# Altium footprint library PCB2.PcbLib: 56 footprints (part 3 of 4)
Each footprint in its own frame and in the unit in brackets; x right, y up, seen from the top. Pads: shape width x height; smd on the part's side, far side on the other; paste and mask are expansions set on the pad; w line width, h text height; cw(c..) or ccw(c..) is an arc to the next point about the centre after c.
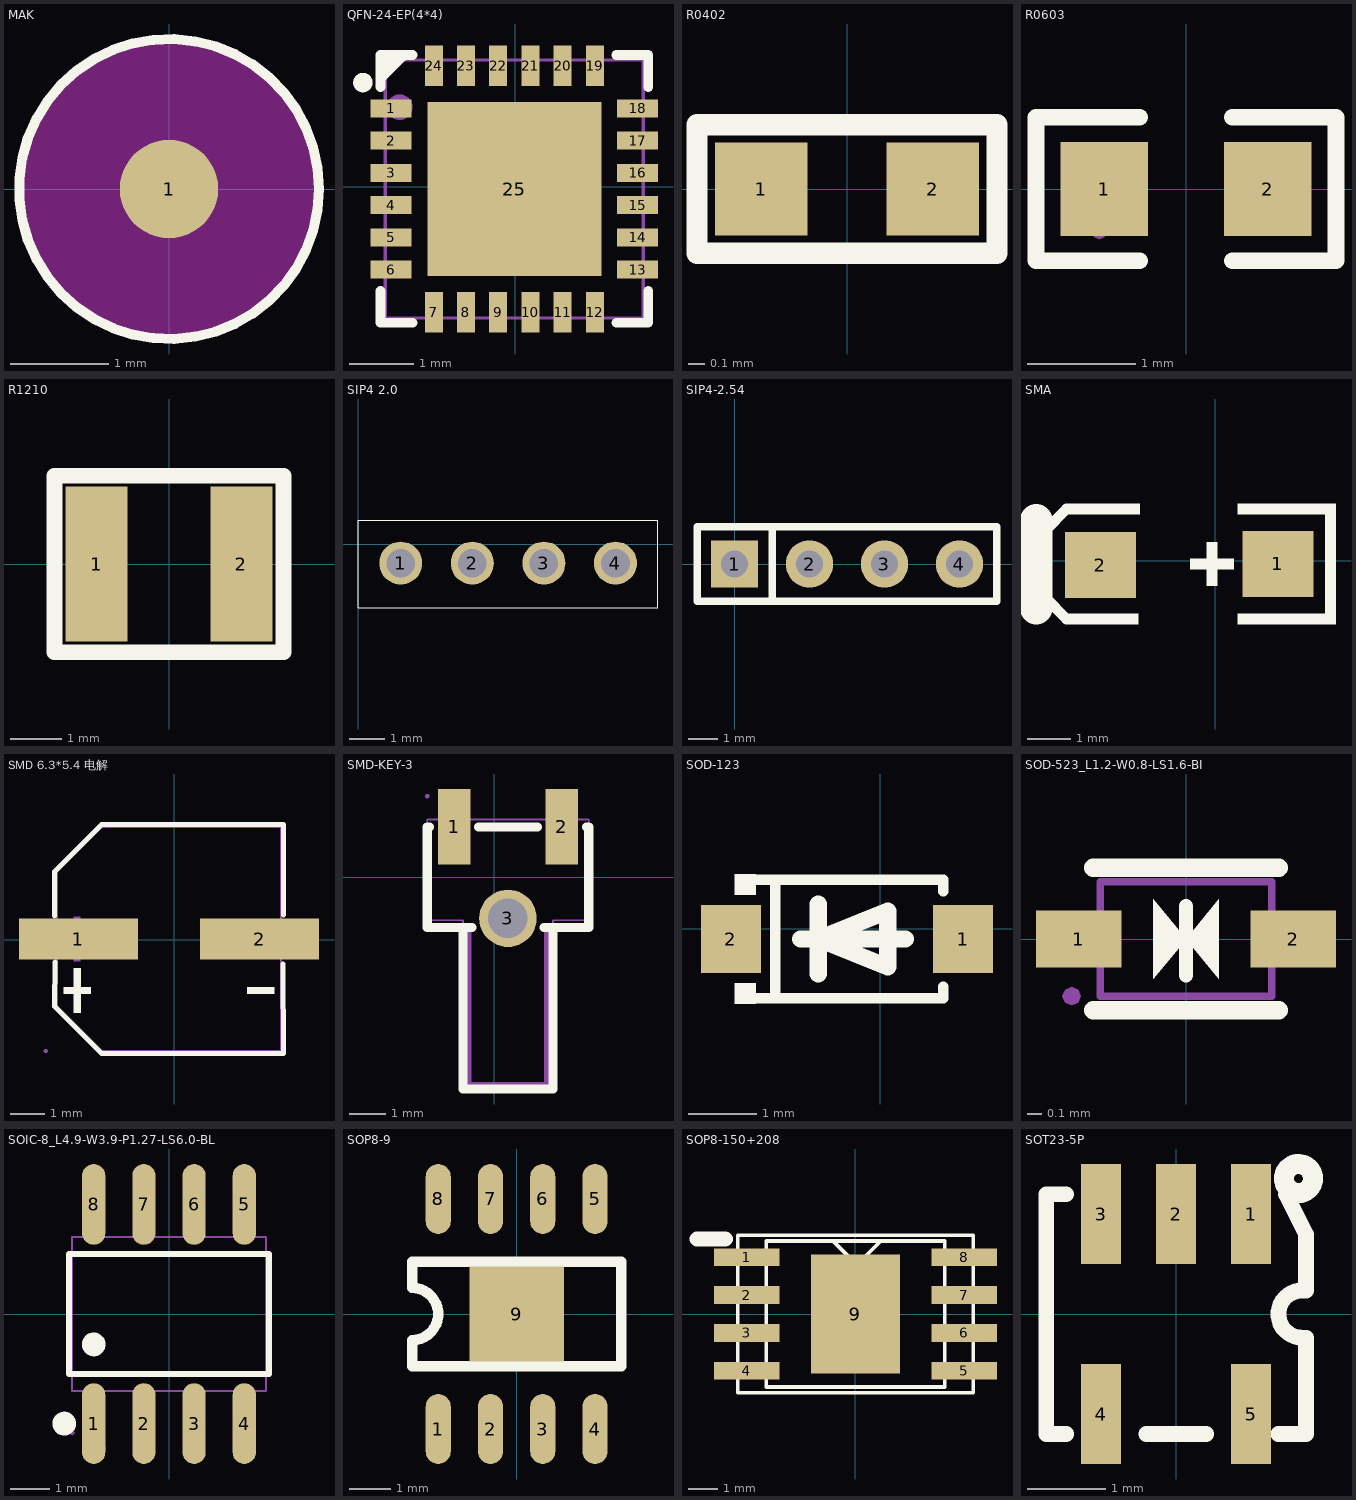
[diagram p2: the footprints below, top view; thin cyan lines are the x and y axes]

## MAK [mm]
height 6.86
pads (1):
  round 1 smd: 1(0,0)
Top Layer keep-out:
  region: 1.524,0 1.524,0.15 1.465,0.445 1.351,0.722 1.184,0.971 0.971,1.184 0.722,1.351 0.445,1.465 0.15,1.524 0,1.524 -0.15,1.524 -0.445,1.465 -0.722,1.351 -0.971,1.184 -1.184,0.971 -1.351,0.722 -1.465,0.445 -1.524,0.15 -1.524,0 -1.524,-0.15 -1.465,-0.445 -1.351,-0.722 -1.184,-0.971 -0.971,-1.184 -0.722,-1.351 -0.445,-1.465 -0.15,-1.524 0,-1.524 0.15,-1.524 0.445,-1.465 0.722,-1.351 0.971,-1.184 1.184,-0.971 1.351,-0.722 1.465,-0.445 1.524,-0.15
Top Overlay:
  circle w0.102: c0,0 r1.524

## QFN-24-EP(4*4) [mil]
height 270.08
pads (25):
  rect 24.9x11 smd paste-3937 mask+2: 1(-75.8,47.9) 2(-75.8,28.3) 3(-75.8,8.6) 4(-75.8,-11.1) 5(-75.8,-30.8) 6(-75.8,-50.5) 13(74.7,-50.5) 14(74.7,-30.8) 15(74.7,-11.1) 16(74.7,8.6) 17(74.7,28.3) 18(74.7,47.9)
  rect 11x24.9 smd paste-3937 mask+2: 7(-49.7,-76.5) 8(-30.1,-76.5) 9(-10.4,-76.5) 10(9.3,-76.5) 11(29,-76.5) 12(48.7,-76.5) 19(48.7,74) 20(29,74) 21(9.3,74) 22(-10.4,74) 23(-30.1,74) 24(-49.7,74)
  rect 106.3x106.3 smd paste-3937 mask+2: 25(-0.5,-1.3)
Top Overlay:
  circle w5.9: c-93,63.7 r3
  region: -62.8,80.5 -82.3,80.5 -82.3,65.7
  lines w6: -82.3,-63.5 -82.3,-83 -62.8,-83 ; -82.3,61 -82.3,80.5 -62.8,80.5 -68,80.5 -82.3,66.2 ; 61.7,-83 81.2,-83 81.2,-63.5 ; 61.7,80.5 81.2,80.5 81.2,61
Top Paste:
  region: -55.2,86.4 -44.2,86.4 -44.2,61.5 -55.2,61.5
  region: -35.6,86.4 -24.5,86.4 -24.5,61.5 -35.6,61.5
  region: -15.9,86.4 -4.9,86.4 -4.9,61.5 -15.9,61.5
  region: 3.8,86.4 14.8,86.4 14.8,61.5 3.8,61.5
  region: 23.5,86.4 34.5,86.4 34.5,61.5 23.5,61.5
  region: 43.2,86.4 54.2,86.4 54.2,61.5 43.2,61.5
  region: 62.3,53.4 87.2,53.4 87.2,42.4 62.3,42.4
  region: 62.3,33.8 87.2,33.8 87.2,22.7 62.3,22.7
  region: 62.3,14.1 87.2,14.1 87.2,3.1 62.3,3.1
  region: 62.3,-5.6 87.2,-5.6 87.2,-16.6 62.3,-16.6
  region: 62.3,-25.3 87.2,-25.3 87.2,-36.3 62.3,-36.3
  region: 62.3,-45 87.2,-45 87.2,-56 62.3,-56
  region: 43.2,-64.1 54.2,-64.1 54.2,-89 43.2,-89
  region: 23.5,-64.1 34.5,-64.1 34.5,-89 23.5,-89
  region: 3.8,-64.1 14.8,-64.1 14.8,-89 3.8,-89
  region: -15.9,-64.1 -4.9,-64.1 -4.9,-89 -15.9,-89
  region: -35.6,-64.1 -24.5,-64.1 -24.5,-89 -35.6,-89
  region: -55.2,-64.1 -44.2,-64.1 -44.2,-89 -55.2,-89
  region: -88.2,-45 -63.3,-45 -63.3,-56 -88.2,-56
  region: -88.2,-25.3 -63.3,-25.3 -63.3,-36.3 -88.2,-36.3
  region: -88.2,-5.6 -63.3,-5.6 -63.3,-16.6 -88.2,-16.6
  region: -88.2,14.1 -63.3,14.1 -63.3,3.1 -88.2,3.1
  region: -88.2,33.8 -63.3,33.8 -63.3,22.7 -88.2,22.7
  region: -88.2,53.4 -63.3,53.4 -63.3,42.4 -88.2,42.4
  region: -43,41.2 42,41.2 42,-43.8 -43,-43.8
Mechanical 2:
  circle w7.9: c-70.5,48.7 r3.9
Mechanical 6:
  lines w2: -79.3,-80 -79.3,77.5 78.2,77.5 78.2,-80 -79.3,-80
Mechanical 8:
  region: -76.9,77.5 -76.9,76.51 -78.31,75.1 -80.29,75.1 -81.7,76.51 -81.7,77.5 -81.7,78.49 -80.29,79.9 -78.31,79.9 -76.9,78.49
Mechanical 9:
  region: -39.9,47.9 48.7,47.9 48.7,-50.5 -49.7,-50.5 -49.7,38.1
  region: -54.5,62.5 -45,62.5 -45,77.5 -54.5,77.5
  region: -34.8,62.5 -25.3,62.5 -25.3,77.5 -34.8,77.5
  region: -15.1,62.5 -5.6,62.5 -5.6,77.5 -15.1,77.5
  region: 4.6,62.5 14,62.5 14,77.5 4.6,77.5
  region: 24.3,62.5 33.7,62.5 33.7,77.5 24.3,77.5
  region: 44,62.5 53.4,62.5 53.4,77.5 44,77.5
  region: 78.2,52.7 63.3,52.7 63.3,43.2 78.2,43.2
  region: 78.2,33 63.3,33 63.3,23.5 78.2,23.5
  region: 78.2,13.3 63.3,13.3 63.3,3.8 78.2,3.8
  region: 78.2,-6.4 63.3,-6.4 63.3,-15.8 78.2,-15.8
  region: 78.2,-26.1 63.3,-26.1 63.3,-35.5 78.2,-35.5
  region: 78.2,-45.8 63.3,-45.8 63.3,-55.2 78.2,-55.2
  region: 44,-65.1 53.4,-65.1 53.4,-80 44,-80
  region: 24.3,-65.1 33.7,-65.1 33.7,-80 24.3,-80
  region: 4.6,-65.1 14,-65.1 14,-80 4.6,-80
  region: -15.1,-65.1 -5.6,-65.1 -5.6,-80 -15.1,-80
  region: -34.8,-65.1 -25.3,-65.1 -25.3,-80 -34.8,-80
  region: -54.5,-65.1 -45,-65.1 -45,-80 -54.5,-80
  region: -79.3,-45.8 -64.3,-45.8 -64.3,-55.2 -79.3,-55.2
  region: -79.3,-26.1 -64.3,-26.1 -64.3,-35.5 -79.3,-35.5
  region: -79.3,-6.4 -64.3,-6.4 -64.3,-15.8 -79.3,-15.8
  region: -79.3,13.3 -64.3,13.3 -64.3,3.8 -79.3,3.8
  region: -79.3,33 -64.3,33 -64.3,23.5 -79.3,23.5
  region: -79.3,52.7 -64.3,52.7 -64.3,43.2 -79.3,43.2

## R0402 [mm]
height 6.86
pads (2):
  rect 0.55x0.55 smd mask+0.025: 1(-0.508,0) 2(0.508,0)
Top Overlay:
  lines w0.127: -0.889,-0.381 -0.889,0.381 0.889,0.381 0.889,-0.381 -0.889,-0.381

## R0603 [mm]
height 6.86
pads (2):
  rect 0.806x0.864 smd: 1(-0.753,0) 2(0.753,0)
Top Overlay:
  lines w0.152: -0.426,-0.661 -1.385,-0.661 -1.385,0.661 -0.426,0.661 ; 0.426,-0.661 1.385,-0.661 1.385,0.661 0.426,0.661
Top Paste:
  region: 1.195,0.45 0.395,0.45 0.345,0.4 0.345,0.172 0.715,0.172 0.715,-0.158 0.345,-0.158 0.345,-0.4 0.395,-0.45 1.195,-0.45 1.245,-0.4 1.245,0.4
  region: -0.355,0.4 -0.355,0.172 -0.735,0.172 -0.735,-0.158 -0.355,-0.158 -0.355,-0.4 -0.405,-0.45 -1.195,-0.45 -1.245,-0.4 -1.245,0.4 -1.195,0.45 -0.405,0.45
Mechanical 15:
  region: -0.8,-0.4 -0.8,0.4 -0.5,0.4 -0.5,-0.4
  region: 0.8,-0.4 0.8,0.4 0.5,0.4 0.5,-0.4
  region: -0.735,-0.4 -0.754,-0.446 -0.8,-0.465 -0.846,-0.446 -0.865,-0.4 -0.846,-0.354 -0.8,-0.335 -0.754,-0.354
  lines w0.051: -0.8,-0.4 -0.8,0.4 ; 0.8,-0.4 0.8,0.4

## R1210 [mil]
height 270.08
pads (2):
  rect 47x118 smd: 1(-55,0) 2(55,0)
Top Overlay:
  lines w12: -87,-67 -87,67 87,67 87,-67 -87,-67

## SIP4 2.0 [mm]
height 6.86
pads (4):
  round 1.2 hole 0.8: 1(1.194,-0.533) 2(3.194,-0.533) 3(5.194,-0.533) 4(7.194,-0.533)
Top Overlay:
  lines w0.025: 0,-1.778 0,0.66 8.382,0.66 8.382,-1.778 0,-1.778

## SIP4-2.54 [mm]
height 6.86
pads (4):
  rect 1.6x1.6 hole 0.9: 1(0,0)
  round 1.6 hole 0.9: 2(2.54,0) 3(5.08,0) 4(7.62,0)
Top Overlay:
  lines w0.254: 1.27,-1.27 1.27,1.27 ; -1.27,-1.27 -1.27,1.27 8.89,1.27 8.89,-1.27 -1.27,-1.27

## SMA [mm]
height 6.86
pads (2):
  rect 1.65x1.53 smd: 1(1.449,-0.076) 2(-2.665,-0.102)
Top Overlay:
  region: 0.052,0.432 -0.202,0.432 -0.202,-0.584 0.052,-0.584
  region: 0.433,0.051 -0.583,0.051 -0.583,-0.203 0.433,-0.203
  region: 2.795,-1.219 0.509,-1.219 0.509,-1.473 2.795,-1.473
  region: 2.796,1.32 2.542,1.32 2.542,-1.474 2.796,-1.474
  region: 2.796,1.32 0.51,1.32 0.51,1.066 2.796,1.066
  region: -1.776,-1.219 -3.453,-1.219 -3.453,-1.473 -1.776,-1.473
  region: -1.751,1.321 -3.453,1.321 -3.453,1.067 -1.751,1.067
  lines w0.254: -3.456,-1.346 -3.926,-0.876 -3.926,0.724 -3.456,1.194
  lines w0.762: -4.158,-1.096 -4.158,0.936
3D body "sma.stp": height 2.39, standoff 0.1, extent -3.058,-1.394 1.842,1.181

## SMD 6.3*5.4 电解 [mm]
height 6.86
pads (2):
  rect 3.5x1.2 smd: 1(-2.822,0.023) 2(2.518,0.023)
Top Overlay:
  region: 2.95,-1.396 2.95,-1.594 2.158,-1.594 2.158,-1.396
  region: -3.254,-1.396 -3.254,-1.594 -2.462,-1.594 -2.462,-1.396
  region: -2.957,-0.835 -2.957,-2.155 -2.759,-2.155 -2.759,-0.835
  lines w0.152: -3.528,0.709 -3.528,2.003 -2.132,3.399 3.224,3.399 3.218,0.731 ; -3.514,-0.663 -3.528,-1.958 -2.133,-3.353 3.224,-3.353 3.204,-0.716
Mechanical 6:
  region: 2.95,0.122 2.95,-0.076 2.158,-0.076 2.158,0.122
  region: -3.254,0.122 -3.254,-0.076 -2.462,-0.076 -2.462,0.122
  region: -2.962,0.683 -2.962,-0.637 -2.764,-0.637 -2.764,0.683
Mechanical 15:
  region: -3.726,-3.277 -3.727,-3.253 -3.761,-3.219 -3.81,-3.219 -3.845,-3.253 -3.846,-3.277 -3.845,-3.301 -3.81,-3.335 -3.761,-3.335 -3.727,-3.301
  region: 0.915,0.348 3.515,0.348 3.515,-0.302 0.915,-0.302
  region: -3.786,0.348 -1.186,0.348 -1.186,-0.302 -3.786,-0.302
  lines w0.051: -3.452,-1.957 -2.132,-3.277 3.148,-3.277 3.148,3.323 -2.132,3.323 -3.452,2.003 -3.452,-1.957

## SMD-KEY-3 [mil]
height 270.08
pads (3):
  rect 35.4x82.7 smd paste-3937 mask+2: 1(-44.1,55.5) 2(74,55.5)
  round 63 hole 43.3 paste+0 mask+2: 3(14.9,-44.9)
Top Overlay:
  lines w10: -70.9,55.3 -73.6,55.3 -73.6,-54.9 -24.4,-54.9 ; -34.3,-54.9 -34.3,-145.4 -34.3,-232 64.2,-232 64.2,-145.4 64.2,-54.9 ; -17.3,55.3 47.2,55.3 ; 54.3,-54.9 103.5,-54.9 103.5,55.3 100.8,55.3
Top Paste:
  drawing of 3 lines, arcs and shapes, not listed
Mechanical 2:
  region: -30.1,-59.7 -30.1,-229.7 -25.1,-229.7 -25.1,-59.7
  region: 59.9,-59.7 59.9,-229.7 54.9,-229.7 54.9,-59.7
  region: -25.1,-229.7 54.9,-229.7 54.9,-224.7 -25.1,-224.7
Mechanical 6:
  lines w2: -73.6,-47 -73.6,63.3 103.5,63.3 103.5,-47 64.2,-47 64.2,-232 -34.3,-232 -34.3,-47 -73.6,-47
Mechanical 8:
  region: -71.2,88.9 -71.2,87.91 -72.61,86.5 -74.59,86.5 -76,87.91 -76,88.9 -76,89.89 -74.59,91.3 -72.61,91.3 -71.2,89.89
Mechanical 9:
  region: 61.2,88.9 86.8,88.9 86.8,49.5 61.2,49.5
  region: -56.9,88.9 -31.3,88.9 -31.3,49.5 -56.9,49.5
  region: 1.2,-39 28.7,-39 28.7,-50.8 1.2,-50.8

## SOD-123 [mm]
height 6.86
pads (2):
  rect 0.88x0.99 smd: 1(1.209,-0.15) 2(-2.176,-0.15)
Top Overlay:
  region: -1.814,0.793 -1.814,0.498 -2.118,0.498 -2.118,0.793
  region: -1.814,-1.092 -1.814,-0.797 -2.118,-0.797 -2.118,-1.092
  lines w0.152: -1.89,-1.016 0.923,-1.016 0.923,-0.848 ; -1.89,0.716 0.923,0.716 0.923,0.548 ; -1.533,-1.016 -1.533,0.716
  lines w0.254: -1.158,-0.15 0.366,-0.15 ; -0.904,-0.658 -0.904,0.358 ; -0.904,-0.15 0.112,-0.556 0.112,0.257 -0.904,-0.15

## SOD-523_L1.2-W0.8-LS1.6-BI [mm]
height 6.86
pads (2):
  rect 0.6x0.4 smd: 1(-0.75,0) 2(0.75,0)
Top Overlay:
  region: 0,0 0.229,0.279 0.229,-0.279
  region: 0,0 -0.229,-0.279 -0.229,0.279
  lines w0.1: 0,-0.254 0,0.229
  lines w0.13: -0.65,-0.5 0.65,-0.5 ; -0.65,0.5 0.65,0.5
Mechanical 6:
  region: -0.229,0.279 -0.229,-0.279 0,0
  region: 0.229,0.279 0.229,-0.279 0,0
Mechanical 15:
  region: -0.8,-0.465 -0.846,-0.446 -0.865,-0.4 -0.846,-0.354 -0.8,-0.335 -0.754,-0.354 -0.735,-0.4 -0.754,-0.446
  region: 0.8,-0.152 0.463,-0.152 0.463,0.148 0.8,0.148
  region: -0.8,0.15 -0.463,0.15 -0.463,-0.15 -0.8,-0.15
  lines w0.051: -0.6,-0.4 -0.6,0.4 0.6,0.4 0.6,-0.4 -0.6,-0.4

## SOIC-8_L4.9-W3.9-P1.27-LS6.0-BL [mm]
height 6.86
pads (8):
  oval 0.588x2.045 smd: 1(-1.905,-2.772) 2(-0.635,-2.772) 3(0.635,-2.772) 4(1.905,-2.772) 5(1.905,2.772) 6(0.635,2.772) 7(-0.635,2.772) 8(-1.905,2.772)
Top Overlay:
  circle w0.3: c-2.652,-2.772 r0.15
  circle w0.3: c-1.905,-0.769 r0.15
  lines w0.152: -2.526,-1.521 2.526,-1.521 2.526,1.521 -2.526,1.521 -2.526,-1.521
Mechanical 6:
  circle w0.3: c-1.905,-3.4 r0.15
Mechanical 15:
  region: 1.695,2.175 1.695,1.94 2.115,1.94 2.115,2.175
  region: 1.695,3 1.695,2.165 2.115,2.165 2.115,3
  region: 0.425,2.175 0.425,1.94 0.845,1.94 0.845,2.175
  region: 0.425,3 0.425,2.165 0.845,2.165 0.845,3
  region: -0.845,2.175 -0.845,1.94 -0.425,1.94 -0.425,2.175
  region: -0.845,3 -0.845,2.165 -0.425,2.165 -0.425,3
  region: -2.115,2.175 -2.115,1.94 -1.695,1.94 -1.695,2.175
  region: -2.115,3 -2.115,2.165 -1.695,2.165 -1.695,3
  region: 1.695,-2.175 1.695,-1.94 2.115,-1.94 2.115,-2.175
  region: 1.695,-3 1.695,-2.165 2.115,-2.165 2.115,-3
  region: 0.425,-2.175 0.425,-1.94 0.845,-1.94 0.845,-2.175
  region: 0.425,-3 0.425,-2.165 0.845,-2.165 0.845,-3
  region: -0.845,-2.175 -0.845,-1.94 -0.425,-1.94 -0.425,-2.175
  region: -0.845,-3 -0.845,-2.165 -0.425,-2.165 -0.425,-3
  region: -2.115,-2.175 -2.115,-1.94 -1.695,-1.94 -1.695,-2.175
  region: -2.115,-3 -2.115,-2.165 -1.695,-2.165 -1.695,-3
  region: -2.515,-3 -2.496,-3.046 -2.45,-3.065 -2.404,-3.046 -2.385,-3 -2.404,-2.954 -2.45,-2.935 -2.496,-2.954
  lines w0.051: -2.45,-1.95 2.45,-1.95 2.45,1.95 -2.45,1.95 -2.45,-1.95

## SOP8-9 [mil]
height 270.08
pads (9):
  oval 24x66.93 smd: 1(-75,-110) 2(-25,-110) 3(25,-110) 4(75,-110) 5(75,110) 6(25,110) 7(-25,110) 8(-75,110)
  rect 90.55x90.55 smd: 9(0,0)
Top Overlay:
  lines w10: -100,-50 100,-50 100,50 -100,50 -100,25 cw(c-100,0) -100,-25 -100,-50
3D body "SOP8.STEP": height 62.99, standoff 0, extent -100,-118.93 97.64,118.93

## SOP8-150+208 [mm]
height 6.86
pads (9):
  rect 2.2x0.6 smd: 1(-3.65,1.905) 2(-3.65,0.635) 3(-3.65,-0.635) 4(-3.65,-1.905) 5(3.65,-1.905) 6(3.65,-0.635) 7(3.65,0.635) 8(3.65,1.905)
  rect 3x4 smd: 9(0,0)
Top Overlay:
  lines w0.127: -0.7,2.4 0,1.7 0.1,1.7 0.8,2.4 ; -3.95,-2.64 -3.95,2.64 3.95,2.64 3.95,-2.64 -3.95,-2.64 ; -2.995,-2.45 -2.995,2.45 2.995,2.45 2.995,-2.45 -2.995,-2.45
  lines w0.508: -5.32,2.52 -4.37,2.52

## SOT23-5P [mil]
height 270.08
pads (5):
  rect 20x50 smd: 1(37.5,50) 2(0,50) 3(-37.5,50) 4(-37.5,-50) 5(37.5,-50)
Top Overlay:
  circle w10: c61.19,67.81 r7.28
  lines w7.87: -55,-60 -65,-60 -65,60 -55,60 ; -15,-60 15,-60 ; 51.18,-60 65,-60 65,-11.81 63.67,-11.81 cw(c63.01,0) 63.67,11.81 65,11.81 65,40 55,60